# EAGLE library part DIMM168 (library Stworzone3)
AMP connector
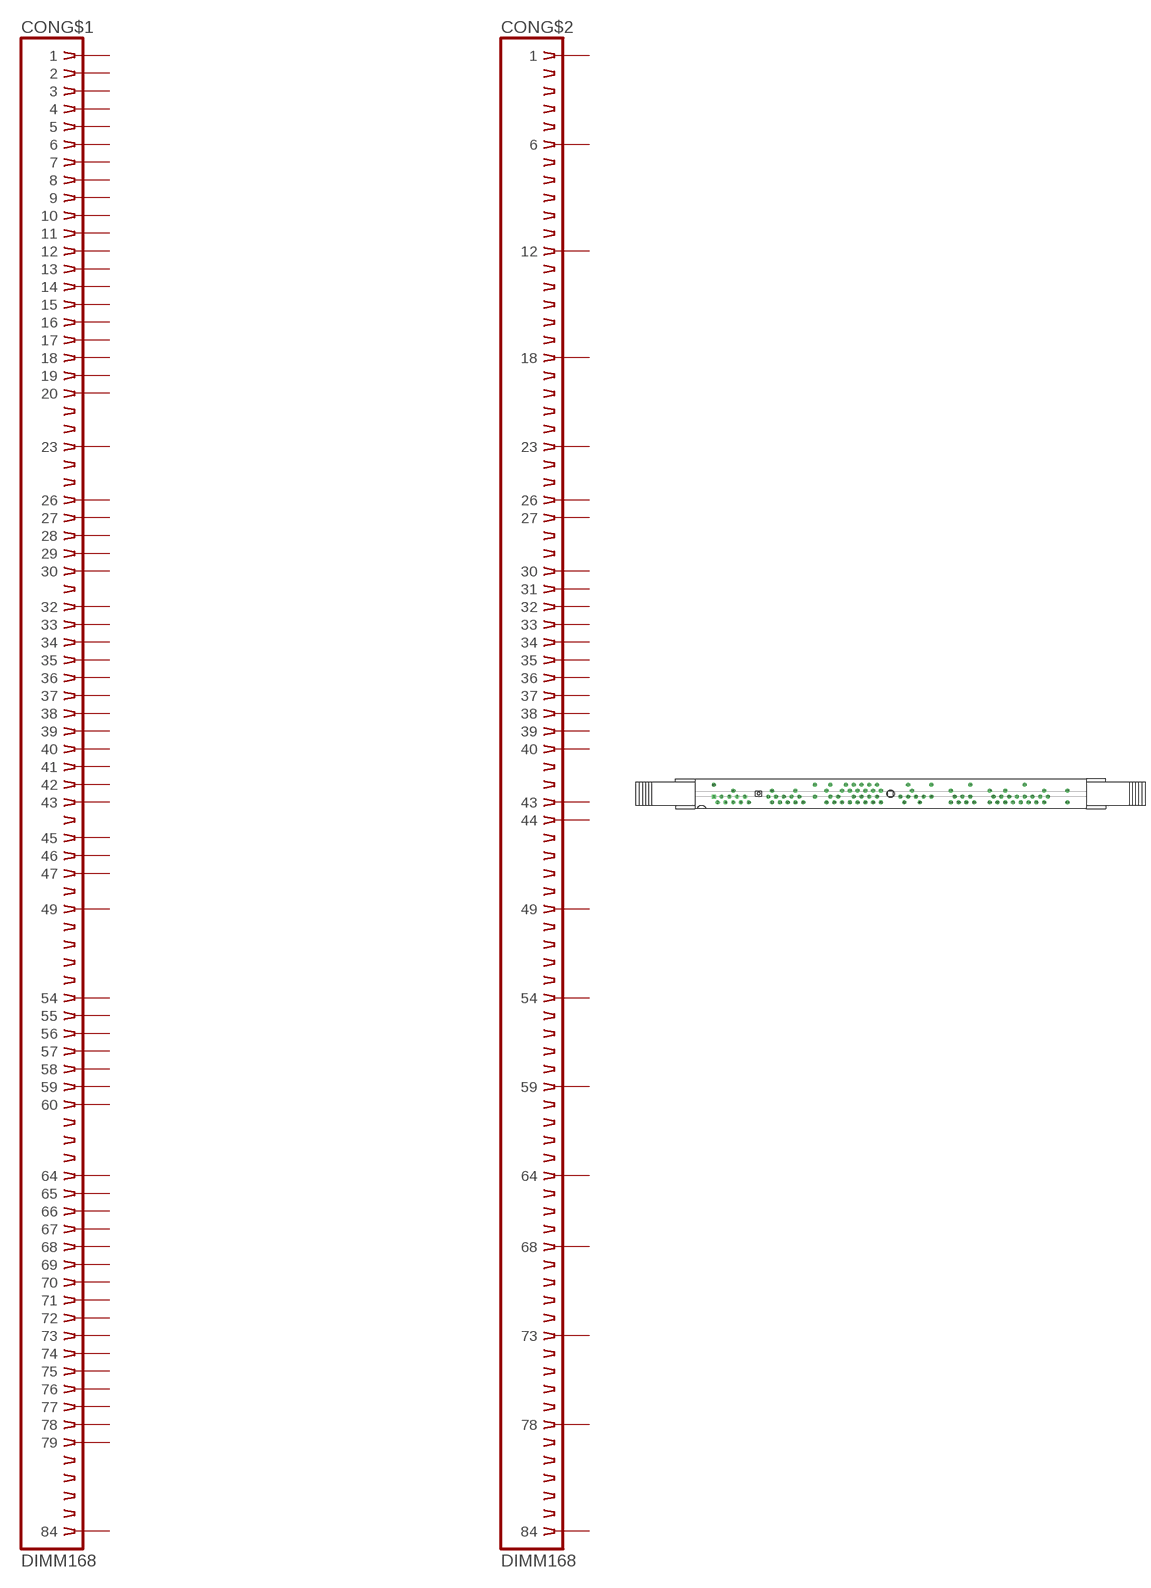
[diagram p0: symbol with the pads of 390052-4; footprint 390052-4]

Designator prefix CON; gates G$1=DIMM164_A G$2=DIMM164_B

## DIMM168  [390052-4]
1  G$1:1  pas
2  G$1:2  pas
3  G$1:3  pas
4  G$1:4  pas
5  G$1:5  pas
6  G$1:6  pas
7  G$1:7  pas
8  G$1:8  pas
9  G$1:9  pas
10  G$1:10  pas
11  G$1:11  pas
12  G$1:12  pas
13  G$1:13  pas
14  G$1:14  pas
15  G$1:15  pas
16  G$1:16  pas
17  G$1:17  pas
18  G$1:18  pas
19  G$1:19  pas
20  G$1:20  pas
23  G$1:23  pas
26  G$1:26  pas
27  G$1:27  pas
28  G$1:28  pas
29  G$1:29  pas
30  G$1:30  pas
32  G$1:32  pas
33  G$1:33  pas
34  G$1:34  pas
35  G$1:35  pas
36  G$1:36  pas
37  G$1:37  pas
38  G$1:38  pas
39  G$1:39  pas
40  G$1:40  pas
41  G$1:41  pas
42  G$1:42  pas
43  G$1:43  pas
45  G$1:45  pas
46  G$1:46  pas
47  G$1:47  pas
49  G$1:49  pas
54  G$1:54  pas
55  G$1:55  pas
56  G$1:56  pas
57  G$1:57  pas
58  G$1:58  pas
59  G$1:59  pas
60  G$1:60  pas
64  G$1:64  pas
65  G$1:65  pas
66  G$1:66  pas
67  G$1:67  pas
68  G$1:68  pas
69  G$1:69  pas
70  G$1:70  pas
71  G$1:71  pas
72  G$1:72  pas
73  G$1:73  pas
74  G$1:74  pas
75  G$1:75  pas
76  G$1:76  pas
77  G$1:77  pas
78  G$1:78  pas
79  G$1:79  pas
84  G$1:84  pas
85  G$2:1  pas
90  G$2:6  pas
96  G$2:12  pas
102  G$2:18  pas
107  G$2:23  pas
110  G$2:26  pas
111  G$2:27  pas
114  G$2:30  pas
115  G$2:31  pas
116  G$2:32  pas
117  G$2:33  pas
118  G$2:34  pas
119  G$2:35  pas
120  G$2:36  pas
121  G$2:37  pas
122  G$2:38  pas
123  G$2:39  pas
124  G$2:40  pas
127  G$2:43  pas
128  G$2:44  pas
133  G$2:49  pas
138  G$2:54  pas
143  G$2:59  pas
148  G$2:64  pas
152  G$2:68  pas
157  G$2:73  pas
162  G$2:78  pas
168  G$2:84  pas

## Footprint 390052-4 (pad centres in mm)
Std. DRAM 3.3 Volt
drill 0.813 square: 1 -57.785,-0.953
drill 0.813 octagon: 2 -56.515,-2.857; 3 -55.245,-0.953; 4 -53.975,-2.857; 5 -52.705,-0.953; 6 -51.435,-2.857; 7 -50.165,-0.953; 8 -48.895,-2.857; 9 -47.625,-0.953; 10 -46.355,-2.857; 11 -40.005,-0.953; 12 -38.735,-2.857; 13 -37.465,-0.953; 14 -36.195,-2.857; 15 -34.925,-0.953; 16 -33.655,-2.857; 17 -32.385,-0.953; 18 -31.115,-2.857; 19 -29.845,-0.953; 20 -28.575,-2.857; 23 -24.765,-0.953; 26 -20.955,-2.857; 27 -19.685,-0.953; 28 -18.415,-2.857; 29 -17.145,-0.953; 30 -15.875,-2.857; 32 -13.335,-2.857; 33 -12.065,-0.953; 34 -10.795,-2.857; 35 -9.525,-0.953; 36 -8.255,-2.857; 37 -6.985,-0.953; 38 -5.715,-2.857; 39 -4.445,-0.953; 40 -3.175,-2.857; 41 3.175,-0.953; 42 4.445,-2.857; 43 5.715,-0.953; 45 8.255,-0.953; 46 9.525,-2.857; 47 10.795,-0.953; 49 13.335,-0.953; 54 19.685,-2.857; 55 20.955,-0.953; 56 22.225,-2.857; 57 23.495,-0.953; 58 24.765,-2.857; 59 26.035,-0.953; 60 27.305,-2.857; 64 32.385,-2.857; 65 33.655,-0.953; 66 34.925,-2.857; 67 36.195,-0.953; 68 37.465,-2.857; 69 38.735,-0.953; 70 40.005,-2.857; 71 41.275,-0.953; 72 42.545,-2.857; 73 43.815,-0.953; 74 45.085,-2.857; 75 46.355,-0.953; 76 47.625,-2.857; 77 48.895,-0.953; 78 50.165,-2.857; 79 51.435,-0.953; 84 57.785,-2.857; 85 -57.785,2.857; 90 -51.435,0.953; 96 -38.735,0.953; 102 -31.115,0.953; 107 -24.765,2.857; 110 -20.955,0.953; 111 -19.685,2.857; 114 -15.875,0.953; 115 -14.605,2.857; 116 -13.335,0.953; 117 -12.065,2.857; 118 -10.795,0.953; 119 -9.525,2.857; 120 -8.255,0.953; 121 -6.985,2.857; 122 -5.715,0.953; 123 -4.445,2.857; 124 -3.175,0.953; 127 5.715,2.857; 128 6.985,0.953; 133 13.335,2.857; 138 19.685,0.953; 143 26.035,2.857; 148 32.385,0.953; 152 37.465,0.953; 157 43.815,2.857; 162 50.165,0.953; 168 57.785,0.953
hole 2.362 at 0,0
hole 0.813 at -43.18,0